# EAGLE library part MAX9019 (library PP_AnalogIC)
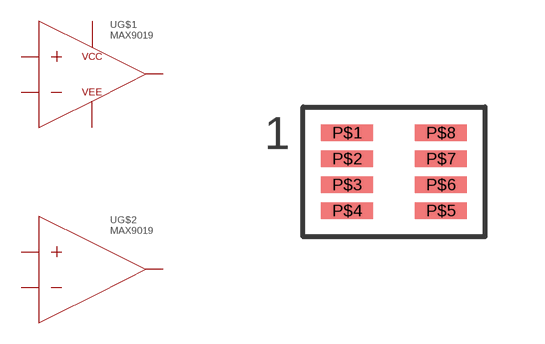
[diagram p13: symbol with the pads of MAX9019EKA+T; footprint MAX9019EKA+T]

Designator prefix U; gates G$1=AZ4558C_A G$2=AZ4558C_B

## MAX9019  [MAX9019EKA+T]
P$1  G$1:OUTPUT_1
P$2  G$1:INPUT_1-
P$3  G$1:INPUT_1+
P$4  G$1:VEE
P$5  G$2:INPUT_2+
P$6  G$2:INPUT_2-
P$7  G$2:OUTPUT_2
P$8  G$1:VCC

## Footprint MAX9019EKA+T (pad centres in mm)
smd 1.3 x 0.42: P$1 -1.175,0.975; P$2 -1.175,0.325; P$3 -1.175,-0.325; P$4 -1.175,-0.975; P$5 1.175,-0.975; P$6 1.175,-0.325; P$7 1.175,0.325; P$8 1.175,0.975